# Altium schematic symbol library DM1097_SchLib.SCHLIB: 93 symbols (part 2 of 4)
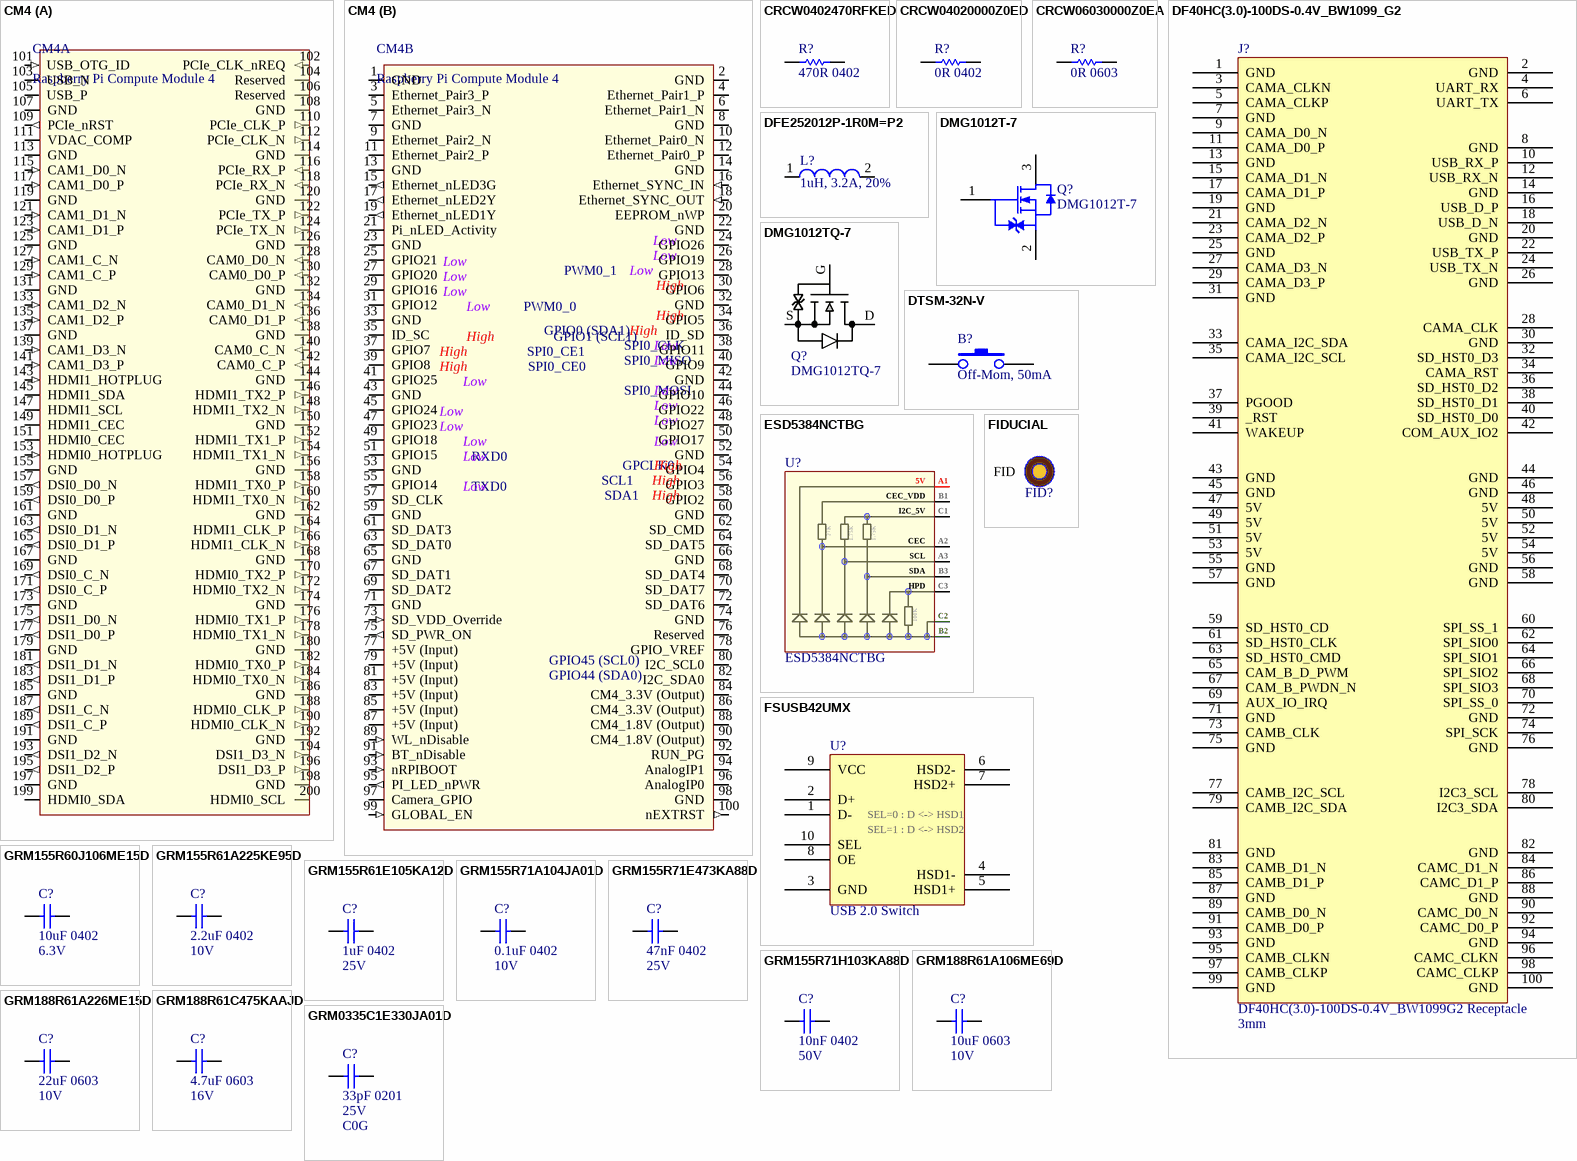
[diagram p5: symbols CM4 to GRM0335C1E330JA01D]

## CM4
designator CM4, comment Raspberry Pi Compute Module 4
Raspberry Pi Compute Module 4 / Two receptacle 100-pin connectors; Manufacturer 1: Hirose; Manufacturer Part Number 1: DF40HC(3.0)-100DS-0.4V(51; ComponentLink1Description: https://datasheet.ciiva.com/46636/ed-df40-20140305-46636517.pdf?src-supplier=Digi-Key; ComponentLink1URL: https://datasheet.ciiva.com/46636/ed-df40-20140305-46636517.pdf?src-supplier=Digi-Key; ComponentLink2Description: https://datasheet.ciiva.com/18562/ed-df40-20140305-18562189.pdf?src-supplier=Digi-Key; ComponentLink2URL: https://datasheet.ciiva.com/18562/ed-df40-20140305-18562189.pdf?src-supplier=Digi-Key; ComponentLink3Description: https://datasheet.ciiva.com/13559/ed-df40-20140305-13559540.pdf?src-supplier=Mouser; ComponentLink3URL: https://datasheet.ciiva.com/13559/ed-df40-20140305-13559540.pdf?src-supplier=Mouser; ComponentLink4Description: https://datasheet.ciiva.com/18562/ed-df40-20140305-18562462.pdf?src-supplier=Digi-Key; ComponentLink4URL: https://datasheet.ciiva.com/18562/ed-df40-20140305-18562462.pdf?src-supplier=Digi-Key
footprint CM4-F40C-100DS-0.4v_1.5mm_0mm (DF40C-100DS-0.4v)
footprint CM4-DF40HC(3.0)-100DS-0.4v_3mm_1.5mm (DF40HC(3.0)-100DS-0.4v)
part A pins: 101 USB_OTG_ID (in) "Input ( 3.3V signal ) USB OTG Pin. Internal pulled up. When grounded the CM4 becomes a USB host but the correct OS driver also needs to be used", 102 PCIe_CLK_nREQ (in) "Input ( 3.3V signal) PCIe Clock request pin (low to request PCI clock). Internal pulled up", 103 USB_N "USB D-", 104 Reserved "Do not Connect anything to this pin.", 105 USB_P "USB D+", 106 Reserved "Do not Connect anything to this pin.", 107 GND (power) "Ground (0V)", 108 GND (power) "Ground (0V)", 109 PCIe_nRST (out) "Output (+3.3V signal) PCIe Reset Low active", 110 PCIe_CLK_P (out) "PCIe Clock Out Positive (100MHz) NB AC coupling Capacitor Included on CM4", 111 VDAC_COMP "Video DAC output (TV OUT)", 112 PCIe_CLK_N (out) "PCIe Clock Out Negative (100MHz) NB AC coupling Capacitor Included on CM4", 113 GND (power) "Ground (0V)", 114 GND (power) "Ground (0V)", 115 CAM1_D0_N (in) "Input Camera1 D0 Negative", 116 PCIe_RX_P (in) "Input PCIe GEN 2 RX Positive NB External AC coupling Capacitor required", 117 CAM1_D0_P (in) "Input Camera1 D0 Positive", 118 PCIe_RX_N (in) "Input PCIe GEN 2 RX Negative NB External AC coupling Capacitor required", 119 GND (power) "Ground (0V)", 120 GND (power) "Ground (0V)", 121 CAM1_D1_N (in) "Input Camera1 D1 Negative", 122 PCIe_TX_P (out) "Output PCIe GEN 2 TX Positive NB AC coupling Capacitor Included on CM4", 123 CAM1_D1_P (in) "Input Camera1 D1 Positive", 124 PCIe_TX_N (out) "Output PCIe GEN 2 TX Positive NB AC coupling Capacitor Included on CM4", 125 GND (power) "Ground (0V)", 126 GND (power) "Ground (0V)", 127 CAM1_C_N (in) "Input Camera1 Clock Negative", 128 CAM0_D0_N (in) "Input Camera0 D0 Negative", 129 CAM1_C_P (in) "Input Camera1 Clock Positive", 130 CAM0_D0_P (in) "Input Camera0 D0 Positive", 131 GND (power) "Ground (0V)", 132 GND (power) "Ground (0V)", 133 CAM1_D2_N (in) "Input Camera1 D2 Negative", 134 CAM0_D1_N (in) "Input Camera0 D1 Negative", 135 CAM1_D2_P (in) "Input Camera1 D2 Positive", 136 CAM0_D1_P (in) "Input Camera0 D1 Positive", 137 GND (power) "Ground (0V)", 138 GND (power) "Ground (0V)", 139 CAM1_D3_N (in) "Input Camera1 D3 Negative", 140 CAM0_C_N (in) "Input Camera0 Clock Negative", 141 CAM1_D3_P (in) "Input Camera1 D3 Positive", 142 CAM0_C_P (in) "Input Camera0 Clock Positive", 143 HDMI1_HOTPLUG (in) "Input HDMI1 Hotplug Internally pulled down with a 100K. 5V tolerant. (It can be connected directly to a HDMI connector a small amount of ESD protection is provided on the CM4 by an on board HDMI05-CL02F3)", 144 GND (power) "Ground (0V)", 145 HDMI1_SDA (io) "Bidir HDMI1 SDA Internally pulled up with a 1.8K. 5V tolerant. (It can be connected directly to a HDMI connector a small amount of ESD protection is provided on the CM4 by an on board HDMI05-CL02F3)", 146 HDMI1_TX2_P (out) "Output HDMI1 TX2 Positive", 147 HDMI1_SCL (oc) "Input HDMI1 SCL Internally pulled up with a 1.8K. 5V tolerant. (It can be connected directly to a HDMI connector a small amount of ESD protection is provided on the CM4 by an on board HDMI05-CL02F3)", 148 HDMI1_TX2_N (out) "Output HDMI1 TX2 Negative", 149 HDMI1_CEC (oc) "Input HDMI1 CEC Internally pulled up with a 27K. 5V tolerant. (It can be connected directly to a HDMI connector a small amount of ESD protection is provided on the CM4 by an on board HDMI05-CL02F3)", 150 GND (power) "Ground (0V)", 151 HDMI0_CEC (oc) "Input HDMI0 CEC Internally pulled up with a 27K. 5V tolerant (It can be connected directly to a HDMI connector a small amount of ESD protection is provided on the CM4 by an on board HDMI05-CL02F3)", 152 HDMI1_TX1_P (out) "Output HDMI1 TX1 Positive", 153 HDMI0_HOTPLUG (in) "Input HDMI0 Hotplug Internally pulled down 100K. 5V tolerant. (It can be connected directly to a HDMI connector a small amount of ESD protection is provided on the CM4 by an on board HDMI05-CL02F3)", 154 HDMI1_TX1_N (out) "Output HDMI1 TX1 Negative", 155 GND (power) "Ground (0V)", 156 GND (power) "Ground (0V)", 157 DSI0_D0_N (out) "Output Display0 D0 Negative", 158 HDMI1_TX0_P (out) "Output HDMI1 TX0 Positive", 159 DSI0_D0_P (out) "Output Display0 D0 Positive", 160 HDMI1_TX0_N (out) "Output HDMI1 TX0 Negative", 161 GND (power) "Ground (0V)", 162 GND (power) "Ground (0V)", 163 DSI0_D1_N (out) "Output Display0 D1 Negative", 164 HDMI1_CLK_P (out) "Output HDMI1 Clock Positive", 165 DSI0_D1_P (out) "Output Display0 D1 Positive", 166 HDMI1_CLK_N (out) "Output HDMI1 Clock Negative", 167 GND (power) "Ground (0V)", 168 GND (power) "Ground (0V)", 169 DSI0_C_N (out) "Output Display0 Clock Negative", 170 HDMI0_TX2_P (out) "Output HDMI0 TX2 Positive", 171 DSI0_C_P (out) "Output Display0 Clock Positive", 172 HDMI0_TX2_N (out) "Output HDMI0 TX2 Negative", 173 GND (power) "Ground (0V)", 174 GND (power) "Ground (0V)", 175 DSI1_D0_N (out) "Output Display1 D0 Negative", 176 HDMI0_TX1_P (out) "Output HDMI0 TX1 Positive", 177 DSI1_D0_P (out) "Output Display1 D0 Positive", 178 HDMI0_TX1_N (out) "Output HDMI0 TX1 Negative", 179 GND (power) "Ground (0V)", 180 GND (power) "Ground (0V)", 181 DSI1_D1_N (out) "Output Display1 D1 Negative", 182 HDMI0_TX0_P (out) "Output HDMI0 TX0 Positive", 183 DSI1_D1_P (out) "Output Display1 D1 Positive", 184 HDMI0_TX0_N (out) "Output HDMI0 TX0 Negative", 185 GND (power) "Ground (0V)", 186 GND (power) "Ground (0V)", 187 DSI1_C_N (out) "Output Display1 Clock Negative", 188 HDMI0_CLK_P (out) "Output HDMI0 Clock Positive", 189 DSI1_C_P (out) "Output Display1 Clock Positive", 190 HDMI0_CLK_N (out) "Output HDMI0 Clock Negative", 191 GND (power) "Ground (0V)", 192 GND (power) "Ground (0V)", 193 DSI1_D2_N (out) "Output Display1 D2 Negative", 194 DSI1_D3_N (out) "Output Display1 D3 Negative", 195 DSI1_D2_P (out) "Output Display1 D2 Positive", 196 DSI1_D3_P (out) "Output Display1 D3 Positive", 197 GND (power) "Ground (0V)", 198 GND (power) "Ground (0V)", 199 HDMI0_SDA (io) "Bidir HDMI0 SDA Internally pulled up with a 1.8K. 5V tolerant. (It can be connected directly to a HDMI connector a small amount of ESD protection is provided on the CM4 by an on board HDMI05-CL02F3)", 200 HDMI0_SCL (oc) "Bidir HDMI0 SCL Internally pulled up with a 1.8K. 5V tolerant. (It can be connected directly to a HDMI connector a small amount of ESD protection is provided on the CM4 by an on board HDMI05-CL02F3)"
part B pins: 1 GND (power) "Ground (0V)", 2 GND (power) "Ground (0V)", 3 Ethernet_Pair3_P "Ethernet Pair 3 Positive ( connect to Transformer or MagJack)", 4 Ethernet_Pair1_P "Ethernet Pair 1 Positive ( connect to Transformer or MagJack)", 5 Ethernet_Pair3_N "Ethernet Pair 3 Negative ( connect to Transformer or MagJack)", 6 Ethernet_Pair1_N "Ethernet Pair 1 Negative ( connect to Transformer or MagJack)", 7 GND (power) "Ground (0V)", 8 GND (power) "Ground (0V)", 9 Ethernet_Pair2_N "Ethernet Pair 2 Negative ( connect to Transformer or MagJack)", 10 Ethernet_Pair0_N "Ethernet Pair 0 Negative ( connect to Transformer or MagJack)", 11 Ethernet_Pair2_P "Ethernet Pair 2 Positive ( connect to Transformer or MagJack)", 12 Ethernet_Pair0_P "Ethernet Pair 0 Positive ( connect to Transformer or MagJack)", 13 GND (power) "Ground (0V)", 14 GND (power) "Ground (0V)", 15 Ethernet_nLED3G (out) "Low Active Ethernet Activity indicator ( 3.3V signal) Typically a Green LED is connected to this pin: IOL = 8mA @ VOL< 0.4V", 16 Ethernet_SYNC_IN (in) "IEEE1588 SYNC Input pin ( 1.8V signal : IOL = 8mA @ VOL< 0.4V )", 17 Ethernet_nLED2Y (out) "Low Active Ethernet speed indicator ( 3.3V signal) Typically a Yellow LED is connected to this pin. A low State indicates the 1Gbit or 100Mbit Link : IOL = 8mA @ VOL< 0.4V", 18 Ethernet_SYNC_OUT (in) "IEEE1588 SYNC Output pin ( 1.8V signal : IOL = 8mA @ VOL< 0.4V )", 19 Ethernet_nLED1Y (out) "Low Active Ethernet speed indicator ( 3.3V signal) Typically a Yellow LED is connected to this pin. A low State indicates the 1Gbit or 10Mbit Link : IOL = 8mA @ VOL< 0.4V", 20 EEPROM_nWP "Leaving floating NB internally pulled up to CM4_3.3V via 100K ( VIL <0.8V) but can be grounded to prevent writing to the on board EEPROM which stores the bootcode", 21 Pi_nLED_Activity (oc) "Low Active Pi Activity LED. 20mA Max 5V tolerant ( VOL<0.4V). ( this is the signal that drives the Green LED on the Raspberry Pi 4, Model B )", 22 GND (power) "Ground (0V)", 23 GND (power) "Ground (0V)", 24 GPIO26 "Pin37", 25 GPIO21 "Pin40", 26 GPIO19 "Pin35", 27 GPIO20 "Pin38", 28 GPIO13 "Pin33 PWM1", 29 GPIO16 "Pin36", 30 GPIO6 "Pin31", 31 GPIO12 "Pin32 PWM0", 32 GND (power) "Ground (0V)", 33 GND (power) "Ground (0V)", 34 GPIO5 "Pin29", 35 ID_SC "Pin28 GPIO1 SCL0", 36 ID_SD "Pin27 GPIO0 SDA0", 37 GPIO7 "Pin26 SPI0_CE1", 38 GPIO11 "Pin23 SPI0_CLK", 39 GPIO8 "Pin24 SPI0_CE0", 40 GPIO9 "Pin21 SPI0_MISO", 41 GPIO25 "Pin22", 42 GND (power) "Ground (0V)", 43 GND (power) "Ground (0V)", 44 GPIO10 "Pin19 SPI0_MOSI", 45 GPIO24 "Pin18", 46 GPIO22 "Pin15", 47 GPIO23 "Pin16", 48 GPIO27 "Pin13", 49 GPIO18 "Pin12", 50 GPIO17 "Pin11", 51 GPIO15 "Pin10 RXD0", 52 GND (power) "Ground (0V)", 53 GND (power) "Ground (0V)", 54 GPIO4 "Pin7 GPCLK0", 55 GPIO14 "Pin8 TXD0", 56 GPIO3 "Pin5 SCL1 Internal 1.8K pull up", 57 SD_CLK "SDCARD Clock signal (only available on CM4Lite)", 58 GPIO2 "Pin3 SDA1 Internal 1.8K pull up", 59 GND (power) "Ground (0V)", 60 GND (power) "Ground (0V)", 61 SD_DAT3 "SDCARD/eMMC Data3 signal (only available on CM4Lite)", 62 SD_CMD "SDCARD/eMMC Command signal (only available on CM4Lite)", 63 SD_DAT0 "SDCARD/eMMC Data0 signal (only available on CM4Lite)", 64 SD_DAT5 "SDCARD/eMMC Data5 signal (only available on CM4Lite)", 65 GND (power) "Ground (0V)", 66 GND (power) "Ground (0V)", 67 SD_DAT1 "SDCARD/eMMC Data1 signal (only available on CM4Lite)", 68 SD_DAT4 "SDCARD/eMMC Data4 signal (only available on CM4Lite)", 69 SD_DAT2 "SDCARD/eMMC Data2 signal (only available on CM4Lite)", 70 SD_DAT7 "SDCARD/eMMC Data7 signal (only available on CM4Lite)", 71 GND (power) "Ground (0V)", 72 SD_DAT6 "SDCARD/eMMC Data6 signal (only available on CM4Lite)", 73 SD_VDD_Override (in) "Force SDCARD/eMMC interface to 1.8V signalling if set to 3.3V, otherwise leave unconnected. Typically only used if external eMMC is connected", 74 GND (power) "Ground (0V)", 75 SD_PWR_ON (out) "Output to Power switch for SDCARD. CM4 sets this pin High (3.3V) to signal that Power to the SDCARD should be turned on. If booting from the SDCARD is required then a pullup should be fitted (only available on CM4Lite)", 76 Reserved "Do not Connect anything to this pin.", 77 +5V (Input) (power) "4.75V-5.25V Main power input", 78 GPIO_VREF (power) "Must be connected to CM4_3.3V ( pins 84 and 86 ) for 3.3V GPIO or CM4_1.8V ( pins 88 and 90) for 1.8V GPIO. This pin cannot be floating or connected to ground", 79 +5V (Input) (power) "4.75V-5.25V Main power input", 80 I2C_SCL0 "IIC Clock pin ( Raspberry Pi GPIO45) Typically used for Camera and Displays Internal 1.8K pull up to CM4_3.3V", 81 +5V (Input) (power) "4.75V-5.25V Main power input", 82 I2C_SDA0 "IIC Data pin ( Raspberry Pi GPIO44 ) Typically used for Camera and Displays Internal 1.8K pull up to CM4_3.3V", 83 +5V (Input) (power) "4.75V-5.25V Main power input", 84 CM4_3.3V (Output) (power) "3.3V +/-2.5% Power Output max 300mA per pin for a total of 600mA. This will be powered down during power off or GLOBAL_EN being set low", 85 +5V (Input) (power) "4.75V-5.25V Main power input", 86 CM4_3.3V (Output) (power) "3.3V +/-2.5% Power Output max 300mA per pin for a total of 600mA. This will be powered down during power off or GLOBAL_EN being set low", 87 +5V (Input) (power) "4.75V-5.25V Main power input", 88 CM4_1.8V (Output) (power) "1.8V +/-2.5% Power Output max 300mA per pin for a total of 600mA. This will be powered down during power off or GLOBAL_EN being set low", 89 WL_nDisable (in) "Can be left floating if driven low the wireless interface will be disabled. Internal pulled up via 1.8K to CM4_3.3V", 90 CM4_1.8V (Output) (power) "1.8V +/-2.5% Power Output max 300mA per pin for a total of 600mA. This will be powered down during power off or GLOBAL_EN being set low", 91 BT_nDisable (in) "Can be left floating if driven low the Bluetooth interface will be disabled. Internal pulled up via 1.8K to CM4_3.3V", 92 RUN_PG "Bidirectional pin. Can be driven low ( via a 220R resistor) to Reset the CM4 CPU. As an Output a high signals Power Good and CPU running. Internally pulled up to +3.3V via 10K", 93 nRPIBOOT (in) "A low on this pin force booting from an RPI server ( e.g PC or a Raspberry Pi)  if not used leave floating. Internally pulled via 10K to +3.3V", 94 AnalogIP1 "Analogue input of the MAX7704. Typically connected to CC pin of Type C power connector", 95 PI_LED_nPWR (out) "Low active Output to drive Power On LED. This signal needs to be buffered.", 96 AnalogIP0 "Analogue input of the MAX7704. Typically connected to CC pin of Type C power connector", 97 Camera_GPIO "Typically used to Shutdown the camera to reduce power. Reassigning this pin to another function isn’t recommended. CM4_3.3V signalling", 98 GND (power) "Ground (0V)", 99 GLOBAL_EN (in) "Input. Drive low to power off CM4. Internally pulled up with a 100K to +5V", 100 nEXTRST (out) "Output Driven low during reset Driven high (CM4_3.3V) once CM4 CPU has started to boot"
part B text: Low; PWM0_1; High; PWM0_0; GPIO0 (SDA1); GPIO1 (SCL1); SPI0_CE1; SPI0_CLK; SPI0_CE0; SPI0_MISO; SPI0_MOSI; RXD0; GPCLK0; TXD0; SCL1; SDA1; GPIO45 (SCL0); GPIO44 (SDA0)

## CRCW0402470RFKED
designator R?, comment 470R 0402
RES SMD 470 OHM 1% 1/16W 0402; Manufacturer 1: Vishay; Manufacturer Part Number 1: CRCW0402470RFKED; Temperature Coefficient: 100ppm/°C; Power Rating: 63mW; Voltage Rating: 50V; Supplier 1: Digi-Key; Stock 1: 9199; Pricing 1: 1=0.10000, 10=0.03800, 100=0.01540, 1000=0.00690, 2500=0.00599, 5000=0.00495 (USD); RoHS: Yes; Mount: Surface Mount; Case/Package: 0402; Weight: 2.3E-05oz; Case Code (Imperial): 0402; Case Code (Metric): 1005; Contact Plating: Tin; Min Operating Temperature: -55°C; Max Operating Temperature: 155°C; Resistance: 470R; Tolerance: 1%; Composition: Thick Film; Packaging: Tape and Reel; Voltage Rating (DC): 50V; Termination: SMD/SMT; Number of Terminations: 2; Package Quantity: 10; Military Standard: Not; Max Power Dissipation: 63mW; Features: Automotive AEC-Q200; Length: 1mm; Height: 0.35mm; Width: 0.5mm; Depth: 0.5mm; Radiation Hardening: No; REACH SVHC: Unknown; Lead Free: Lead Free; ComponentLink1URL: https://datasheet.ciiva.com/11811/0900766b80d98824-11811416.pdf?src-supplier=RSComponents; ComponentLink1Description: https://datasheet.ciiva.com/11811/0900766b80d98824-11811416.pdf?src-supplier=RSComponents; ComponentLink2URL: https://datasheet.ciiva.com/16764/70201119-16764886.pdf?src-supplier=Allied+Electronics; ComponentLink2Description: https://datasheet.ciiva.com/16764/70201119-16764886.pdf?src-supplier=Allied+Electronics; ComponentLink3URL: https://datasheet.ciiva.com/28613/1720486-28613479.pdf?src-supplier=Element14; ComponentLink3Description: https://datasheet.ciiva.com/28613/1720486-28613479.pdf?src-supplier=Element14; ComponentLink4URL: https://datasheet.ciiva.com/3256/dcrcwe3-3256553.pdf?src-supplier=Avnet; ComponentLink4Description: https://datasheet.ciiva.com/3256/dcrcwe3-3256553.pdf?src-supplier=Avnet; ComponentLink5URL: https://datasheet.ciiva.com/7777/1720486-7777243.pdf?src-supplier=Element14; ComponentLink5Description: https://datasheet.ciiva.com/7777/1720486-7777243.pdf?src-supplier=Element14; ComponentLink6URL: https://datasheet.ciiva.com/8336/dcrcwe3-8336715.pdf?src-supplier=Avnet; ComponentLink6Description: https://datasheet.ciiva.com/8336/dcrcwe3-8336715.pdf?src-supplier=Avnet; ComponentLink7URL: https://datasheet.ciiva.com/7777/1697337-7777244.pdf?src-supplier=Element14; ComponentLink7Description: https://datasheet.ciiva.com/7777/1697337-7777244.pdf?src-supplier=Element14; ComponentLink8URL: https://datasheet.ciiva.com/2463/dcrcwe3-2463085.pdf?src-supplier=Digi-Key; ComponentLink8Description: https://datasheet.ciiva.com/2463/dcrcwe3-2463085.pdf?src-supplier=Digi-Key; ComponentLink9URL: https://datasheet.ciiva.com/16362/dcrcwe3-16362109.pdf?src-supplier=Future+Electronics; ComponentLink9Description: https://datasheet.ciiva.com/16362/dcrcwe3-16362109.pdf?src-supplier=Future+Electronics; ComponentLink10URL: https://datasheet.ciiva.com/16882/dcrcwe3-16882493.pdf?src-supplier=Avnet+Europe; ComponentLink10Description: https://datasheet.ciiva.com/16882/dcrcwe3-16882493.pdf?src-supplier=Avnet+Europe; ComponentLink11URL: https://datasheet.ciiva.com/2463/dcrcwe3-2463086.pdf?src-supplier=Digi-Key; ComponentLink11Description: https://datasheet.ciiva.com/2463/dcrcwe3-2463086.pdf?src-supplier=Digi-Key; ComponentLink12URL: https://datasheet.ciiva.com/2463/dcrcwe3-2463087.pdf?src-supplier=Digi-Key; ComponentLink12Description: https://datasheet.ciiva.com/2463/dcrcwe3-2463087.pdf?src-supplier=Digi-Key; Supplier 2: Newark; Supplier Part Number 1: 541-470LCT-ND; Supplier Part Number 2: 26W9133
footprint RESC0402(1005)_L (Chip Resistor, Body 1.0x0.5mm, IPC High Density)
footprint RESC0402(1005)_M (Chip Resistor, Body 1.0x0.5mm, IPC Low Density)
footprint RESC0402(1005)_N (Chip Resistor, Body 1.0x0.5mm, IPC Medium Density)
pins: 1, 2

## CRCW04020000Z0ED
designator R?, comment 0R 0402
RES SMD 0 OHM JUMPER 1/16W 0402; Manufacturer 1: Vishay; Manufacturer Part Number 1: CRCW04020000Z0ED; Resistance: 0mR; Power Rating: 63mW; Voltage Rating: 50V; Temperature Coefficient: 100ppm/°C; Tolerance: 5%; Supplier 1: Digi-Key; Stock 1: 855968; Pricing 1: 1=0.10000, 10=0.03400, 25=0.02440, 50=0.01860, 100=0.01380, 250=0.01048, 500=0.00840, 1000=0.00618, 5000=0.00443 (USD); RoHS: Yes; Mount: Surface Mount; Case/Package: 0402; Weight: 2.3E-05oz; Case Code (Imperial): 0402; Case Code (Metric): 1005; Contact Plating: Tin; Min Operating Temperature: -55°C; Max Operating Temperature: 155°C; Packaging: Tape and Reel; Composition: Thick Film; Voltage Rating (DC): 50V; Package Quantity: 1; Termination: SMD/SMT; Number of Terminations: 2; Military Standard: Not; Max Power Dissipation: 63mW; Features: Automotive AEC-Q200; Length: 1mm; Height: 0.35mm; Width: 0.5mm; Depth: 0.5mm; Radiation Hardening: No; REACH SVHC: Unknown; Lead Free: Lead Free; ComponentLink1URL: https://datasheet.ciiva.com/3255/dcrcwe3-3255944.pdf?src-supplier=Avnet; ComponentLink1Description: https://datasheet.ciiva.com/3255/dcrcwe3-3255944.pdf?src-supplier=Avnet; ComponentLink2URL: https://datasheet.ciiva.com/3255/dcrcwe3-3255945.pdf?src-supplier=Avnet; ComponentLink2Description: https://datasheet.ciiva.com/3255/dcrcwe3-3255945.pdf?src-supplier=Avnet; ComponentLink3URL: https://datasheet.ciiva.com/16881/dcrcwe3-16881413.pdf?src-supplier=Avnet+Europe; ComponentLink3Description: https://datasheet.ciiva.com/16881/dcrcwe3-16881413.pdf?src-supplier=Avnet+Europe; ComponentLink4URL: https://datasheet.ciiva.com/2461/dcrcwe3-2461962.pdf?src-supplier=Digi-Key; ComponentLink4Description: https://datasheet.ciiva.com/2461/dcrcwe3-2461962.pdf?src-supplier=Digi-Key; ComponentLink5URL: https://datasheet.ciiva.com/7841/1720486-7841802.pdf?src-supplier=Element14; ComponentLink5Description: https://datasheet.ciiva.com/7841/1720486-7841802.pdf?src-supplier=Element14; ComponentLink6URL: https://datasheet.ciiva.com/2461/dcrcwe3-2461963.pdf?src-supplier=Digi-Key; ComponentLink6Description: https://datasheet.ciiva.com/2461/dcrcwe3-2461963.pdf?src-supplier=Digi-Key; ComponentLink7URL: https://datasheet.ciiva.com/2461/dcrcwe3-2461964.pdf?src-supplier=Digi-Key; ComponentLink7Description: https://datasheet.ciiva.com/2461/dcrcwe3-2461964.pdf?src-supplier=Digi-Key; ComponentLink8URL: https://datasheet.ciiva.com/7841/1697337-7841468.pdf?src-supplier=Element14; ComponentLink8Description: https://datasheet.ciiva.com/7841/1697337-7841468.pdf?src-supplier=Element14; ComponentLink9URL: https://datasheet.ciiva.com/16761/70200976-16761309.pdf?src-supplier=Allied+Electronics; ComponentLink9Description: https://datasheet.ciiva.com/16761/70200976-16761309.pdf?src-supplier=Allied+Electronics; ComponentLink10URL: https://datasheet.ciiva.com/26311/fld-crcw-e3-data-en-26311550.pdf?src-supplier=Distrelec; ComponentLink10Description: https://datasheet.ciiva.com/26311/fld-crcw-e3-data-en-26311550.pdf?src-supplier=Distrelec; Supplier Part Number 1: 541-0.0JCT-ND
footprint RESC0402(1005)_N (Chip Resistor, Body 1.0x0.5mm, IPC Medium Density)
footprint RESC0402(1005)_M (Chip Resistor, Body 1.0x0.5mm, IPC Low Density)
footprint RESC0402(1005)_L (Chip Resistor, Body 1.0x0.5mm, IPC High Density)
pins: 1, 2

## CRCW06030000Z0EA
designator R?, comment 0R 0603
RES SMD 0 OHM JUMPER 1/10W 0603 0 Ohms Jumper 0.1W, 1/10W Chip Resistor 0603 (1608 Metric) Automotive AEC-Q200 Thick Film; Manufacturer 1: Vishay; Manufacturer Part Number 1: CRCW0603-0000Z0EA; Resistance: 0mR; Power Rating: 100mW; Voltage Rating: 75V; Temperature Coefficient: 100ppm/°C; Tolerance: 5%; Current Rating: 2A; Supplier 1: Digi-Key; Stock 1: 742743; Pricing 1: 1=0.100000, 10=0.034000, 25=0.024400, 50=0.018600, 100=0.013800, 250=0.010480, 500=0.008400, 1000=0.006180 (USD); RoHS: Yes; Mount: Surface Mount; Case/Package: 0603; Weight: 7.1E-05oz; Contact Plating: Tin,Lead; Case Code (Metric): 1608; Case Code (Imperial): 0603; Min Operating Temperature: -55°C; Max Operating Temperature: 155°C; Composition: Thick Film; Termination: SMD/SMT; Packaging: Tape and Reel; Package Quantity: 1; Number of Terminations: 2; Military Standard: Not; Max Power Dissipation: 100mW; Voltage Rating (DC): 75V; Features: Automotive AEC-Q200; Working Voltage: 75V; Length: 1.55mm; Height: 0.02inch; Width: 0.033inch; Depth: 0.85mm; Radiation Hardening: No; Lead Free: Lead Free; REACH SVHC: Unknown; ComponentLink1URL: https://datasheet.ciiva.com/2461/dcrcwe3-2461968.pdf?src-supplier=Digi-Key; ComponentLink1Description: https://datasheet.ciiva.com/2461/dcrcwe3-2461968.pdf?src-supplier=Digi-Key; ComponentLink2URL: https://datasheet.ciiva.com/2461/dcrcwe3-2461969.pdf?src-supplier=Digi-Key; ComponentLink2Description: https://datasheet.ciiva.com/2461/dcrcwe3-2461969.pdf?src-supplier=Digi-Key; ComponentLink3URL: https://datasheet.ciiva.com/2461/dcrcwe3-2461970.pdf?src-supplier=Digi-Key; ComponentLink3Description: https://datasheet.ciiva.com/2461/dcrcwe3-2461970.pdf?src-supplier=Digi-Key; ComponentLink4URL: https://datasheet.ciiva.com/8340/dcrcwe3-8340197.pdf?src-supplier=Avnet; ComponentLink4Description: https://datasheet.ciiva.com/8340/dcrcwe3-8340197.pdf?src-supplier=Avnet; ComponentLink5URL: https://datasheet.ciiva.com/16941/dcrcw-16941302.pdf?src-supplier=Avnet+Europe; ComponentLink5Description: https://datasheet.ciiva.com/16941/dcrcw-16941302.pdf?src-supplier=Avnet+Europe; ComponentLink6URL: https://datasheet.ciiva.com/16199/dcrcwe3-16199063.pdf?src-supplier=Future+Electronics; ComponentLink6Description: https://datasheet.ciiva.com/16199/dcrcwe3-16199063.pdf?src-supplier=Future+Electronics; ComponentLink7URL: https://datasheet.ciiva.com/16725/70201119-16725175.pdf?src-supplier=Allied+Electronics; ComponentLink7Description: https://datasheet.ciiva.com/16725/70201119-16725175.pdf?src-supplier=Allied+Electronics; ComponentLink8URL: https://datasheet.ciiva.com/26316/fld-crcw-e3-data-en-26316615.pdf?src-supplier=Distrelec; ComponentLink8Description: https://datasheet.ciiva.com/26316/fld-crcw-e3-data-en-26316615.pdf?src-supplier=Distrelec; ComponentLink9URL: https://datasheet.ciiva.com/5544/dcrcwe3-109170-5544344.pdf?src-supplier=Mouser; ComponentLink9Description: https://datasheet.ciiva.com/5544/dcrcwe3-109170-5544344.pdf?src-supplier=Mouser; ComponentLink10URL: https://datasheet.ciiva.com/7841/1720486-7841816.pdf?src-supplier=Element14; ComponentLink10Description: https://datasheet.ciiva.com/7841/1720486-7841816.pdf?src-supplier=Element14; ComponentLink11URL: https://datasheet.ciiva.com/7841/1720486-7841817.pdf?src-supplier=Element14; ComponentLink11Description: https://datasheet.ciiva.com/7841/1720486-7841817.pdf?src-supplier=Element14; ComponentLink12URL: https://datasheet.ciiva.com/7841/125364-7841818.pdf?src-supplier=Element14; ComponentLink12Description: https://datasheet.ciiva.com/7841/125364-7841818.pdf?src-supplier=Element14; ComponentLink13URL: https://datasheet.ciiva.com/16721/70201119-16721450.pdf?src-supplier=Allied+Electronics; ComponentLink13Description: https://datasheet.ciiva.com/16721/70201119-16721450.pdf?src-supplier=Allied+Electronics; Supplier Part Number 1: 541-0.0GCT-ND
footprint RESC0603(1608)_M (Chip Resistor, Body 1.6x0.8mm, IPC Low Density)
footprint RESC0603(1608)_L (Chip Resistor, Body 1.6x0.8mm, IPC High Density)
footprint RESC0603(1608)_N (Chip Resistor, Body 1.6x0.8mm, IPC Medium Density)
pins: 1, 2

## DF40HC(3.0)-100DS-0.4V_BW1099_G2
designator J?, comment DF40HC(3.0)-100DS-0.4V_BW1099G2 Receptacle  Mated Stacking Height: 3mm
CONN RCPT 100POS 0.4MM SMD GOLD; Manufacturer 1: Hirose; Manufacturer Part Number 1: DF40HC(3.0)-100DS-0.4V(51; Number of Positions: 100; Pitch: 0.016inch; RoHS: Yes; Mount: Surface Mount; Contact Plating: Gold; Packaging: Tape and Reel; Number of Rows: 2; Package Quantity: 1000; Connector Type: Receptacle; Lead Free: Lead Free; ComponentLink1URL: https://datasheet.ciiva.com/46636/ed-df40-20140305-46636517.pdf?src-supplier=Digi-Key; ComponentLink1Description: https://datasheet.ciiva.com/46636/ed-df40-20140305-46636517.pdf?src-supplier=Digi-Key; ComponentLink2URL: https://datasheet.ciiva.com/18562/ed-df40-20140305-18562189.pdf?src-supplier=Digi-Key; ComponentLink2Description: https://datasheet.ciiva.com/18562/ed-df40-20140305-18562189.pdf?src-supplier=Digi-Key; ComponentLink3URL: https://datasheet.ciiva.com/13559/ed-df40-20140305-13559540.pdf?src-supplier=Mouser; ComponentLink3Description: https://datasheet.ciiva.com/13559/ed-df40-20140305-13559540.pdf?src-supplier=Mouser; ComponentLink4URL: https://datasheet.ciiva.com/18562/ed-df40-20140305-18562462.pdf?src-supplier=Digi-Key; ComponentLink4Description: https://datasheet.ciiva.com/18562/ed-df40-20140305-18562462.pdf?src-supplier=Digi-Key; Supplier 1: Mouser; Stock 1: 2172; Pricing 1: 1=2.54000, 10=2.26000, 25=2.07000, 50=2.07000, 100=1.98000, 250=1.79000, 500=1.65000, 1000=1.41000, 3000=1.32000, 6000=1.23000, 10000=1.23000 (USD); Supplier 2: Mouser; Manufacturer 2: Hirose; Manufacturer Part Number 2: DF40HC(3.0)-100DS-0.4V(58); Stock 2: 2078; Pricing 2: 1=2.50000, 10=2.40000, 25=2.10000, 50=2.10000, 100=2.00000, 250=1.76000, 500=1.71000, 1000=1.45000, 2000=1.36000, 5000=1.31000, 10000=1.31000 (USD); Supplier Part Number 1: 798-DF40HC30100DS451; Supplier Part Number 2: 798-DF40HC30100DS458
footprint DF40HC-3.0-100DS-0.4V_minpad (3.0MM MATED HEIGHT CONN HDR 100POS 0.4MM SMD GOLD)
pins: 1 GND, 2 GND, 3 CAMA_CLKN, 4 UART_RX, 5 CAMA_CLKP, 6 UART_TX, 7 GND, 8 GND, 9 CAMA_D0_N, 10 USB_RX_P, 11 CAMA_D0_P, 12 USB_RX_N, 13 GND, 14 GND, 15 CAMA_D1_N, 16 USB_D_P, 17 CAMA_D1_P, 18 USB_D_N, 19 GND, 20 GND, 21 CAMA_D2_N, 22 USB_TX_P, 23 CAMA_D2_P, 24 USB_TX_N, 25 GND, 26 GND, 27 CAMA_D3_N, 28 CAMA_CLK, 29 CAMA_D3_P, 30 GND, 31 GND, 32 SD_HST0_D3, 33 CAMA_I2C_SDA, 34 CAMA_RST, 35 CAMA_I2C_SCL, 36 SD_HST0_D2, 37 PGOOD, 38 SD_HST0_D1, 39 _RST, 40 SD_HST0_D0, 41 WAKEUP, 42 COM_AUX_IO2, 43 GND, 44 GND, 45 GND, 46 GND, 47 5V, 48 5V, 49 5V, 50 5V, 51 5V, 52 5V, 53 5V, 54 5V, 55 GND, 56 GND, 57 GND, 58 GND, 59 SD_HST0_CD, 60 SPI_SS_1, 61 SD_HST0_CLK, 62 SPI_SIO0, 63 SD_HST0_CMD, 64 SPI_SIO1, 65 CAM_B_D_PWM, 66 SPI_SIO2, 67 CAM_B_PWDN_N, 68 SPI_SIO3, 69 AUX_IO_IRQ, 70 SPI_SS_0, 71 GND, 72 GND, 73 CAMB_CLK, 74 SPI_SCK, 75 GND, 76 GND, 77 CAMB_I2C_SCL, 78 I2C3_SCL, 79 CAMB_I2C_SDA, 80 I2C3_SDA, 81 GND, 82 GND, 83 CAMB_D1_N, 84 CAMC_D1_N, 85 CAMB_D1_P, 86 CAMC_D1_P, 87 GND, 88 GND, 89 CAMB_D0_N, 90 CAMC_D0_N, 91 CAMB_D0_P, 92 CAMC_D0_P, 93 GND, 94 GND, 95 CAMB_CLKN, 96 CAMC_CLKN, 97 CAMB_CLKP, 98 CAMC_CLKP, 99 GND, 100 GND

## DFE252012P-1R0M=P2
designator L?, comment 1uH, 3.2A, 20%
FIXED IND 1UH 3.2A 42 MOHM SMD; Manufacturer 1: Murata; Manufacturer Part Number 1: DFE252012P-1R0M=P2; Core Material: Ferrite; Current Rating: 4.3A; Shielding: Shielded; Test Frequency: 1MHz; DC Resistance (DCR): 42mR; Manufacturer: Murata; Manufacturer Part Number: DFE252012P-1R0M=P2; RoHS: Yes; Mount: Surface Mount; Case/Package: 1008; Case Code (Metric): 2520; Min Operating Temperature: -40°C; Max Operating Temperature: 125°C; Packaging: Tape and Reel; Composition: Wirewound; Length: 0.098inch; Width: 0.079inch; Height - Seated (Max): 0.039inch; Depth: 2mm; ComponentLink1URL: http://www.farnell.com/datasheets/2550134.pdf?src-supplier=Farnell; ComponentLink1Description: http://www.farnell.com/datasheets/2550134.pdf?src-supplier=Farnell; ComponentLink2URL: https://www.murata.com/~/media/webrenewal/products/inductor/chip/tokoproducts/wirewoundmetalalloychiptype/m_dfe252012p.ashx?src-supplier=Digi-Key; ComponentLink2Description: https://www.murata.com/~/media/webrenewal/products/inductor/chip/tokoproducts/wirewoundmetalalloychiptype/m_dfe252012p.ashx?src-supplier=Digi-Key; ComponentLink3URL: http://www.murata.com/~/media/webrenewal/products/inductor/chip/tokoproducts/wirewoundmetalalloychiptype/m_dfe252012p.ashx?src-supplier=Digi-Key; ComponentLink3Description: http://www.murata.com/~/media/webrenewal/products/inductor/chip/tokoproducts/wirewoundmetalalloychiptype/m_dfe252012p.ashx?src-supplier=Digi-Key; ComponentLink4URL: http://www.toko.co.jp/products/pdf/inductors/dfe252012p.pdf?src-supplier=Avnet; ComponentLink4Description: http://www.toko.co.jp/products/pdf/inductors/dfe252012p.pdf?src-supplier=Avnet; Supplier 1: Digi-Key; Stock 1: 2560; Pricing 1: 1=0.43000, 10=0.37800, 100=0.27030, 500=0.22702, 1000=0.18377 (USD); Supplier Part Number 1: 490-10647-1-ND; Max DC Current: 3.2A; Tolerance: 20%; Case Code (Imperial): 1008; Supplier 2: Digi-Key; Manufacturer 2: Murata; Manufacturer Part Number 2: DFE252012P-1R0M=P2; Stock 2: 95; Pricing 2: 1=0.43000, 10=0.37800, 100=0.27030, 500=0.22702, 1000=0.18377 (USD); Supplier 3: Mouser; Manufacturer 3: Murata; Manufacturer Part Number 3: DFE252012P-1R0M=P2; Stock 3: 667; Pricing 3: 1=0.43000, 10=0.37900, 50=0.37900, 100=0.27000, 1000=0.18400, 10000=0.14600 (USD); Supplier 4: Element14; Manufacturer 4: Murata; Manufacturer Part Number 4: DFE252012P-1R0M=P2; Stock 4: 41; Pricing 4: 1=0.64000, 10=0.56500, 100=0.40500, 500=0.34000, 1000=0.27500 (SGD); Supplier Part Number 4: 2530071; Supplier Part Number 3: 81-DFE252012P-1R0MP2; Supplier Part Number 2: 490-10647-6-ND; Inductance: 1uH
footprint DFE252012P-1R0M=P2 (Chip Inductor, 2-Leads, Body 2.40x2.00mm, IPC High Density)
pins: 1, 2

## DMG1012T-7
designator Q?
MOSFET N-CH 20V 630MA SOT-523; Manufacturer 1: Diodes; Rds On Max: 400mR; Input Capacitance: 60.67pF; Max Power Dissipation: 280mW; Rise Time: 7.4ns; Fall Time: 12.3ns; Turn-On Delay Time: 5.1ns; Turn-Off Delay Time: 26.7ns; Gate to Source Voltage (Vgs): 6V; Number of Elements: 1; Drain to Source Resistance: 300mR; Element Configuration: Single; Threshold Voltage: 1V; FET Type: 1 N-Channel; Manufacturer Part Number 1: DMG1012T-7; Supplier 1: Digi-Key; Stock 1: 1268946; Pricing 1: 1=0.30000, 10=0.24600, 100=0.10070, 500=0.08396, 1000=0.05834 (USD); RoHS: Yes; Mount: Surface Mount; Case/Package: SOT-523; Number of Pins: 3; Weight: 7.1E-05oz; Contact Plating: Tin,Matte; Min Operating Temperature: -55°C; Max Operating Temperature: 150°C; Continuous Drain Current (ID): 630mA; Packaging: Tape and Reel; Drain to Source Voltage (Vdss): 20V; Package Quantity: 3000; Drain to Source Breakdown Voltage: 20V; Power Dissipation: 280mW; Number of Channels: 1; On-State Resistance: 400MR; Length: 1.7mm; Height: 0.8mm; Width: 0.85mm; Radiation Hardening: No; REACH SVHC: No SVHC; Lead Free: Lead Free; ComponentLink1URL: https://datasheet.ciiva.com/934/ds31783-934512.pdf?src-supplier=Digi-Key; ComponentLink1Description: https://datasheet.ciiva.com/934/ds31783-934512.pdf?src-supplier=Digi-Key; ComponentLink2URL: https://datasheet.ciiva.com/4442/ds31783-44973-4442944.pdf?src-supplier=Mouser; ComponentLink2Description: https://datasheet.ciiva.com/4442/ds31783-44973-4442944.pdf?src-supplier=Mouser; ComponentLink3URL: https://datasheet.ciiva.com/11174/ds31783-11174965.pdf?src-supplier=Avnet; ComponentLink3Description: https://datasheet.ciiva.com/11174/ds31783-11174965.pdf?src-supplier=Avnet; ComponentLink4URL: https://datasheet.ciiva.com/17324/ds31783-17324010.pdf?src-supplier=Avnet+Europe; ComponentLink4Description: https://datasheet.ciiva.com/17324/ds31783-17324010.pdf?src-supplier=Avnet+Europe; ComponentLink5URL: https://datasheet.ciiva.com/6383/ds31783-6383803.pdf?src-supplier=Digi-Key; ComponentLink5Description: https://datasheet.ciiva.com/6383/ds31783-6383803.pdf?src-supplier=Digi-Key; ComponentLink6URL: https://datasheet.ciiva.com/934/ds31783-934511.pdf?src-supplier=Digi-Key; ComponentLink6Description: https://datasheet.ciiva.com/934/ds31783-934511.pdf?src-supplier=Digi-Key; Supplier Part Number 1: DMG1012T-7DICT-ND; Supplier 2: Mouser; Supplier Part Number 2: 621-DMG1012T-7
footprint DMG1012T-7 (SOT523, 3-Leads, Body 1.6x0.8mm, Pitch 0.50mm)
pins: 1 G, 2 S, 3 D

## DMG1012TQ-7
designator Q?
MOSFET NCH 20V 630MA SOT523
footprint SOT523 (SOT23, 3-Leads, Body 1.60x1.60mm, Pitch 0.50mm, IPC Medium Density)
pins: D, G, S

## DTSM-32N-V
designator B?, comment Off-Mom, 50mA
SWITCH TACTILE SMT 3.5mm * 6mm , brown 160gf; Manufacturer 1: Diptronics; Manufacturer Part Number 1: DTSM-32N-V-T/R; Supplier 1: Mouser; Stock 1: 3199; Pricing 1: 1=0.38000, 10=0.38000, 50=0.31000, 100=0.28200, 500=0.25600, 1000=0.23600, 1600=0.20900, 4800=0.18800, 9600=0.17300, 10000=0.17300, 24000=0.16100 (USD); RoHS: No; Min Operating Temperature: -30°C; Max Operating Temperature: 80°C; Length: 6mm; Height: 5mm; Width: 3.5mm; ComponentLink1URL: https://datasheet.ciiva.com/29188/708548-da-01-en-tastschalter-smd-dtsm-32n-v-tr-1600st-29188823.pdf?src-supplier=Conrad; ComponentLink1Description: https://datasheet.ciiva.com/29188/708548-da-01-en-tastschalter-smd-dtsm-32n-v-tr-1600st-29188823.pdf?src-supplier=Conrad; Supplier Part Number 1: 113-DTSM32NVTR
footprint DTSM-32N-V (tactile button 160gf)
pins: 1, 2

## ESD5384NCTBG
designator U?
TVS DIODE 3VWM 9WLCSP
footprint ONSemi CSP-9
pins: A1, A2, A3, B1, B2, B3, C1, C2, C3
text: 5V; CEC_VDD; I2C_5V; 27K; 1.75K; CEC; SCL; SDA; HPD; 100K

## FIDUCIAL
designator FID?  (no BOM)
Fiducial with various available footprints
footprint FIDUCIAL_ROUND_1MM (Round, 1mm dia)
footprint FIDUCIAL_Plus_1mm (Plus sign, 1mm width)
pins: FID (in)

## FSUSB42UMX
designator U?, comment USB 2.0 Switch
IC USB SWITCH DPDT 10UMLP; Manufacturer 1: ON Semiconductor / Fairchild; Manufacturer Part Number 1: FSUSB42UMX; Min Supply Voltage: 3V; Max Supply Voltage: 4.3V; Nominal Supply Current: 1uA; Number of Inputs: 2; Number of Channels: 1; Data Rate: 480Mbps; Output Current: 100mA; Propagation Delay: 0.25ns; Bandwidth: 720MHz; Turn-Off Delay Time: 25ns; On-State Resistance: 6.5R; Turn-On Delay Time: 30ns; Supply Type: Single; Supplier 1: Digi-Key; Stock 1: 31151; Pricing 1: 1=0.59000, 10=0.50200, 100=0.34810, 500=0.28120, 1000=0.20755 (USD); RoHS: Yes; Mount: Surface Mount; Number of Pins: 10; Weight: 18.08g; Min Operating Temperature: -40°C; Max Operating Temperature: 85°C; Package Quantity: 1; Number of Outputs: 2; Packaging: Tape and Reel; Operating Supply Voltage: 4.3V; Number of Ports: 2; Termination: SMD/SMT; Throw Configuration: DPDT; Length: 1.4mm; Height: 0.5mm; Width: 1.8mm; Radiation Hardening: No; REACH SVHC: No SVHC; Lead Free: Lead Free; ComponentLink1URL: https://datasheet.ciiva.com/15108/getdatasheetpartid-189033-15108996.pdf?src-supplier=Verical; ComponentLink1Description: https://datasheet.ciiva.com/15108/getdatasheetpartid-189033-15108996.pdf?src-supplier=Verical; ComponentLink2URL: https://datasheet.ciiva.com/1504/1815547-1504946.pdf?src-supplier=Element14; ComponentLink2Description: https://datasheet.ciiva.com/1504/1815547-1504946.pdf?src-supplier=Element14; ComponentLink3URL: https://datasheet.ciiva.com/26074/fsusb42-26074741.pdf?src-supplier=Avnet+Europe; ComponentLink3Description: https://datasheet.ciiva.com/26074/fsusb42-26074741.pdf?src-supplier=Avnet+Europe; ComponentLink4URL: https://datasheet.ciiva.com/1561/fsusb42-1561415.pdf?src-supplier=Farnell; ComponentLink4Description: https://datasheet.ciiva.com/1561/fsusb42-1561415.pdf?src-supplier=Farnell; ComponentLink5URL: https://datasheet.ciiva.com/3233/fsusb42-3233259.pdf?src-supplier=Avnet; ComponentLink5Description: https://datasheet.ciiva.com/3233/fsusb42-3233259.pdf?src-supplier=Avnet; ComponentLink6URL: https://datasheet.ciiva.com/6638/fsusb42-6638604.pdf?src-supplier=Digi-Key; ComponentLink6Description: https://datasheet.ciiva.com/6638/fsusb42-6638604.pdf?src-supplier=Digi-Key; ComponentLink7URL: https://datasheet.ciiva.com/6638/fsusb42-6638607.pdf?src-supplier=Digi-Key; ComponentLink7Description: https://datasheet.ciiva.com/6638/fsusb42-6638607.pdf?src-supplier=Digi-Key; Supplier 2: Mouser; Supplier Part Number 1: FSUSB42UMXCT-ND; Supplier Part Number 2: 512-FSUSB42UMX
footprint FSUSB4242UMX
pins: 1 D-, 2 D+, 3 GND, 4 HSD1-, 5 HSD1+, 6 HSD2-, 7 HSD2+, 8 OE, 9 VCC, 10 SEL
text: SEL=0 : D <-> HSD1; SEL=1 : D <-> HSD2

## GRM155R60J106ME15D
designator C?, comment 10uF 0402  Voltage Rating: 6.3V
CAP CER 10UF 6.3V X5R 0402 20%; Manufacturer 1: Murata; Manufacturer Part Number 1: GRM155R60J106ME15D; Supplier 1: Digi-Key; Stock 1: 1839627; Pricing 1: 1=0.23000, 10=0.15700, 100=0.07950, 500=0.05442, 1000=0.04814, 2500=0.04605, 5000=0.04186 (USD); RoHS: Yes; Mount: Surface Mount; Case/Package: 0402; Case Code (Metric): 1005; Case Code (Imperial): 0402; Min Operating Temperature: -55°C; Max Operating Temperature: 85°C; Packaging: Tape and Reel; Capacitance: 10uF; Dielectric: X5R; Length: 0.039inch; Width: 0.02inch; ComponentLink1URL: https://www.murata.com/~/media/webrenewal/support/library/catalog/products/capacitor/mlcc/c02e.ashx?la=en-us&src-supplier=Digi-Key; ComponentLink1Description: https://www.murata.com/~/media/webrenewal/support/library/catalog/products/capacitor/mlcc/c02e.ashx?la=en-us&src-supplier=Digi-Key; Supplier Part Number 1: 490-13238-1-ND; Voltage Rating (DC): 6.3V; Thickness: 0.026inch; Tolerance: 20%
footprint CAPC0402(1005)70_N (Chip Capacitor, Body 1.0x0.5mm, Height 0.7mm, IPC Medium Density)
footprint CAPC0402(1005)70_M (Chip Capacitor, Body 1.0x0.5mm, Height 0.7mm, IPC Low Density)
footprint CAPC0402(1005)70_L (Chip Capacitor, Body 1.0x0.5mm, Height 0.7mm, IPC High Density)
pins: 1, 2

## GRM155R61A225KE95D
designator C?, comment 2.2uF 0402  Voltage Rating: 10V
CAP CER 2.2UF 10V X5R 0402 10%; Manufacturer 1: Murata; Manufacturer Part Number 1: GRM155R61A225KE95D; Material: Ceramic; Supplier 1: Digi-Key; Stock 1: 1453518; Pricing 1: 1=0.13000, 10=0.09000, 100=0.04250, 500=0.02982, 1000=0.02469, 2500=0.02298, 5000=0.02103 (USD); RoHS: Yes; Mount: Surface Mount; Case/Package: 0402; Weight: 0.000212oz; Case Code (Metric): 1005; Case Code (Imperial): 0402; Min Operating Temperature: -55°C; Max Operating Temperature: 85°C; Capacitance: 2.2uF; Tolerance: 10%; Packaging: Tape and Reel; Dielectric: X5R; Termination: SMD/SMT; Voltage Rating (DC): 10V; Package Quantity: 10000; Length: 1mm; Height: 0.5mm; Width: 0.5mm; Thickness: 0.022inch; Depth: 0.5mm; REACH SVHC: No SVHC; Lead Free: Lead Free; ComponentLink1URL: http://www.mouser.com/ds/2/281/c02e-2905.pdf?src-supplier=Mouser; ComponentLink1Description: http://www.mouser.com/ds/2/281/c02e-2905.pdf?src-supplier=Mouser; ComponentLink2URL: http://components.arrow.com/part/dataview/0323_04264073?src-supplier=Arrow+Europe; ComponentLink2Description: http://components.arrow.com/part/dataview/0323_04264073?src-supplier=Arrow+Europe; ComponentLink3URL: http://www.farnell.com/datasheets/1872202.pdf?src-supplier=Farnell; ComponentLink3Description: http://www.farnell.com/datasheets/1872202.pdf?src-supplier=Farnell; ComponentLink4URL: http://www.farnell.com/datasheets/2047915.pdf?src-supplier=Farnell; ComponentLink4Description: http://www.farnell.com/datasheets/2047915.pdf?src-supplier=Farnell; ComponentLink5URL: http://www.farnell.com/datasheets/1872202.pdf?src-supplier=Element14; ComponentLink5Description: http://www.farnell.com/datasheets/1872202.pdf?src-supplier=Element14; ComponentLink6URL: http://psearch.en.murata.com/capacitor/product/GRM155R61A225KE95%23.pdf?src-supplier=Avnet; ComponentLink6Description: http://psearch.en.murata.com/capacitor/product/GRM155R61A225KE95%23.pdf?src-supplier=Avnet; ComponentLink7URL: http://www.farnell.com/datasheets/2047915.pdf?src-supplier=Element14; ComponentLink7Description: http://www.farnell.com/datasheets/2047915.pdf?src-supplier=Element14; ComponentLink8URL: https://search.murata.co.jp/Ceramy/image/img/A01X/G101/ENG/GRM155R61A225KE95-01.pdf?src-supplier=Digi-Key; ComponentLink8Description: https://search.murata.co.jp/Ceramy/image/img/A01X/G101/ENG/GRM155R61A225KE95-01.pdf?src-supplier=Digi-Key; ComponentLink9URL: http://www.farnell.com/datasheets/2047915.pdf?src-supplier=Newark; ComponentLink9Description: http://www.farnell.com/datasheets/2047915.pdf?src-supplier=Newark; Supplier Part Number 1: 490-10451-1-ND
footprint CAPC0402(1005)70_N (Chip Capacitor, Body 1.0x0.5mm, Height 0.7mm, IPC Medium Density)
footprint CAPC0402(1005)70_M (Chip Capacitor, Body 1.0x0.5mm, Height 0.7mm, IPC Low Density)
footprint CAPC0402(1005)70_L (Chip Capacitor, Body 1.0x0.5mm, Height 0.7mm, IPC High Density)
pins: 1, 2

## GRM155R61E105KA12D
designator C?, comment 1uF 0402  Voltage Rating: 25V
CAP CER 1UF 25V X5R 0402 10%; Manufacturer 1: Murata; Manufacturer Part Number 1: GRM155R61E105KA12D; Material: Ceramic; Supplier 1: Digi-Key; Stock 1: 200653; Pricing 1: 1=0.10000, 10=0.07100, 100=0.03350, 500=0.02352, 1000=0.01947, 2500=0.01812, 5000=0.01658 (USD); RoHS: Yes; Mount: Surface Mount; Case/Package: 0402; Weight: 0.000212oz; Case Code (Metric): 1005; Case Code (Imperial): 0402; Min Operating Temperature: -55°C; Max Operating Temperature: 85°C; Tolerance: 10%; Capacitance: 1uF; Dielectric: X5R; Voltage Rating (DC): 25V; Packaging: Tape and Reel; Package Quantity: 10000; Termination: SMD/SMT; Voltage: 25V; Length: 1mm; Height: 0.5mm; Width: 0.5mm; Thickness: 0.022inch; Depth: 0.5mm; Lead Free: Lead Free; REACH SVHC: No SVHC; ComponentLink1URL: https://datasheet.ciiva.com/22732/1666664-22732122.pdf?src-supplier=Element14; ComponentLink1Description: https://datasheet.ciiva.com/22732/1666664-22732122.pdf?src-supplier=Element14; ComponentLink2URL: https://datasheet.ciiva.com/7719/1666664-7719006.pdf?src-supplier=Element14; ComponentLink2Description: https://datasheet.ciiva.com/7719/1666664-7719006.pdf?src-supplier=Element14; Supplier Part Number 1: 490-10017-1-ND; Supplier 2: Arrow; Supplier 3: TTI; Supplier Part Number 2: GRM155R61E105KA12D; Supplier Part Number 3: GRM155R61E105KA12D
footprint CAPC0402(1005)70_N (Chip Capacitor, Body 1.0x0.5mm, Height 0.7mm, IPC Medium Density)
footprint CAPC0402(1005)70_M (Chip Capacitor, Body 1.0x0.5mm, Height 0.7mm, IPC Low Density)
footprint CAPC0402(1005)70_L (Chip Capacitor, Body 1.0x0.5mm, Height 0.7mm, IPC High Density)
pins: 1, 2

## GRM155R71A104JA01D
designator C?, comment 0.1uF 0402  Voltage Rating: 10V
CAP CER 0.1UF 10V X7R 0402 5%; Manufacturer 1: Murata; Manufacturer Part Number 1: GRM155R71A104JA01D; Capacitance: 100nF; Supplier 1: Digi-Key; Stock 1: 1346709; Pricing 1: 1=0.10000, 10=0.02500, 100=0.01130, 500=0.00806, 1000=0.00633, 2500=0.00575, 5000=0.00529 (USD); RoHS: Yes; Mount: Surface Mount; Case/Package: 0402; Case Code (Imperial): 0402; Case Code (Metric): 1005; Min Operating Temperature: -55°C; Max Operating Temperature: 125°C; Tolerance: 5%; Packaging: Tape and Reel; Voltage Rating (DC): 10V; Dielectric: X7R; Package Quantity: 10000; Termination: SMD/SMT; Length: 1mm; Height: 0.5mm; Width: 0.02inch; Thickness: 0.022inch; Depth: 0.5mm; Radiation Hardening: No; Lead Free: Lead Free; ComponentLink1URL: https://datasheet.ciiva.com/5411/product-5411135.pdf?src-supplier=Mouser; ComponentLink1Description: https://datasheet.ciiva.com/5411/product-5411135.pdf?src-supplier=Mouser; ComponentLink2URL: https://datasheet.ciiva.com/11618/c02e-11618821.pdf?src-supplier=Avnet; ComponentLink2Description: https://datasheet.ciiva.com/11618/c02e-11618821.pdf?src-supplier=Avnet; Supplier Part Number 1: 490-10777-1-ND
footprint CAPC0402(1005)70_N (Chip Capacitor, Body 1.0x0.5mm, Height 0.7mm, IPC Medium Density)
footprint CAPC0402(1005)70_M (Chip Capacitor, Body 1.0x0.5mm, Height 0.7mm, IPC Low Density)
footprint CAPC0402(1005)70_L (Chip Capacitor, Body 1.0x0.5mm, Height 0.7mm, IPC High Density)
pins: 1, 2

## GRM155R71E473KA88D
designator C?, comment 47nF 0402  Voltage: 25V
CAP CER 0.047UF 25V X7R 0402 10%; Manufacturer 1: Murata; Manufacturer Part Number 1: GRM155R71E473KA88D; Material: Ceramic; Manufacturer: Murata; Manufacturer Part Number: GRM155R71E473KA88D; RoHS: Yes; Mount: Surface Mount; Case/Package: 0402; Number of Pins: 2; Case Code (Metric): 1005; Case Code (Imperial): 0402; Min Operating Temperature: -55°C; Max Operating Temperature: 125°C; Capacitance: 47nF; Tolerance: 10%; Packaging: Tape and Reel; Dielectric: X7R; Voltage Rating (DC): 25V; Package Quantity: 1; Termination: SMD/SMT; Voltage Rating: 25V; Length: 1mm; Height: 0.5mm; Width: 0.02inch; Depth: 0.5mm; Thickness: 0.022inch; Radiation Hardening: No; Lead Free: Lead Free; REACH SVHC: No SVHC; ComponentLink1URL: https://datasheet.ciiva.com/17455/product-17455616.pdf?src-supplier=Avnet+Europe; ComponentLink1Description: https://datasheet.ciiva.com/17455/product-17455616.pdf?src-supplier=Avnet+Europe; ComponentLink2URL: https://datasheet.ciiva.com/131/grm155r71e473ka88-01-131494.pdf?src-supplier=Digi-Key; ComponentLink2Description: https://datasheet.ciiva.com/131/grm155r71e473ka88-01-131494.pdf?src-supplier=Digi-Key; ComponentLink3URL: https://datasheet.ciiva.com/34302/1856425-34302854.pdf?src-supplier=Jameco; ComponentLink3Description: https://datasheet.ciiva.com/34302/1856425-34302854.pdf?src-supplier=Jameco; ComponentLink4URL: https://datasheet.ciiva.com/18184/getdatasheetpartid-153136-18184712.pdf?src-supplier=Verical; ComponentLink4Description: https://datasheet.ciiva.com/18184/getdatasheetpartid-153136-18184712.pdf?src-supplier=Verical; ComponentLink5URL: https://datasheet.ciiva.com/29199/454180-da-01-en-vs-kondensator-0402-29199826.pdf?src-supplier=Conrad; ComponentLink5Description: https://datasheet.ciiva.com/29199/454180-da-01-en-vs-kondensator-0402-29199826.pdf?src-supplier=Conrad; ComponentLink6URL: https://datasheet.ciiva.com/2989/product-2989395.pdf?src-supplier=Avnet; ComponentLink6Description: https://datasheet.ciiva.com/2989/product-2989395.pdf?src-supplier=Avnet; ComponentLink7URL: https://datasheet.ciiva.com/131/grm155r71e473ka88-01-131492.pdf?src-supplier=Digi-Key; ComponentLink7Description: https://datasheet.ciiva.com/131/grm155r71e473ka88-01-131492.pdf?src-supplier=Digi-Key; ComponentLink8URL: https://datasheet.ciiva.com/131/grm155r71e473ka88-01-131493.pdf?src-supplier=Digi-Key; ComponentLink8Description: https://datasheet.ciiva.com/131/grm155r71e473ka88-01-131493.pdf?src-supplier=Digi-Key; ComponentLink9URL: https://datasheet.ciiva.com/7937/608985-7937623.pdf?src-supplier=Element14; ComponentLink9Description: https://datasheet.ciiva.com/7937/608985-7937623.pdf?src-supplier=Element14; ComponentLink10URL: https://datasheet.ciiva.com/14103/grmseries-highdielectrictype-eng-14103754.pdf?src-supplier=Distrelec; ComponentLink10Description: https://datasheet.ciiva.com/14103/grmseries-highdielectrictype-eng-14103754.pdf?src-supplier=Distrelec; ComponentLink11URL: https://datasheet.ciiva.com/5424/product-5424844.pdf?src-supplier=Mouser; ComponentLink11Description: https://datasheet.ciiva.com/5424/product-5424844.pdf?src-supplier=Mouser; ComponentLink12URL: https://datasheet.ciiva.com/16213/product-16213823.pdf?src-supplier=Future+Electronics; ComponentLink12Description: https://datasheet.ciiva.com/16213/product-16213823.pdf?src-supplier=Future+Electronics; Supplier 1: Digi-Key; Stock 1: 1130633; Pricing 1: 1=0.10000, 10=0.06300, 100=0.02820, 500=0.02012, 1000=0.01581, 2500=0.01438, 5000=0.01323 (USD); Supplier Part Number 1: 490-3254-1-ND
footprint CAPC0402(1005)70_N (Chip Capacitor, Body 1.0x0.5mm, Height 0.7mm, IPC Medium Density)
footprint CAPC0402(1005)70_M (Chip Capacitor, Body 1.0x0.5mm, Height 0.7mm, IPC Low Density)
footprint CAPC0402(1005)70_L (Chip Capacitor, Body 1.0x0.5mm, Height 0.7mm, IPC High Density)
pins: 1, 2